# Altium schematic symbol library ADS1246IPWR.SchLib: 1 symbol
Pins are listed as number, name and electrical type; pins without a type are passive.

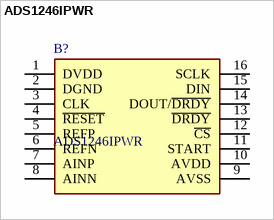
[diagram p0: symbol ADS1246IPWR]

## ADS1246IPWR
designator B?
24-Bit, 2kSPS, 1-Ch Delta-Sigma ADC With PGA for Precision Sensor Measurement; Manufacturer_Name: Texas Instruments; Geometry.Height: 1.2mm; Manufacturer_Part_Number: ADS1246IPWR; Mouser Part Number: 595-ADS1246IPWR; Mouser Price/Stock: https://www.mouser.co.uk/ProductDetail/Texas-Instruments/ADS1246IPWR?qs=XGzIaZb%2FFYJewvAb0%2FxFDA%3D%3D; Arrow Part Number: ADS1246IPWR; Arrow Price/Stock: https://www.arrow.com/en/products/ads1246ipwr/texas-instruments?region=nac; Datasheet Link: http://www.ti.com/lit/gpn/ADS1246
footprint SOP65P640X120-16N
pins: 1 DVDD, 2 DGND, 3 CLK, 4 ~{RESET}, 5 REFP, 6 REFN, 7 AINP, 8 AINN, 9 AVSS, 10 AVDD, 11 START, 12 ~{CS}, 13 ~{DRDY}, 14 DOUT/~{DRDY}, 15 DIN, 16 SCLK